# Altium schematic symbol library SCH - ARM CORTEX - NXP LPC802 HVQFN33.SchLib: 1 symbol
Pins are listed as number, name and electrical type; pins without a type are passive.

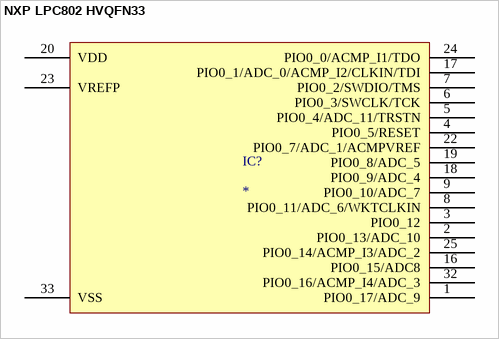
[diagram p0: symbol NXP LPC802 HVQFN33]

## NXP LPC802 HVQFN33
designator IC?
pins: 1 PIO0_17/ADC_9, 2 PIO0_13/ADC_10, 3 PIO0_12, 4 PIO0_5/RESET, 5 PIO0_4/ADC_11/TRSTN, 6 PIO0_3/SWCLK/TCK, 7 PIO0_2/SWDIO/TMS, 8 PIO0_11/ADC_6/WKTCLKIN, 9 PIO0_10/ADC_7, 16 PIO0_15/ADC8, 17 PIO0_1/ADC_0/ACMP_I2/CLKIN/TDI, 18 PIO0_9/ADC_4, 19 PIO0_8/ADC_5, 20 VDD, 22 PIO0_7/ADC_1/ACMPVREF, 23 VREFP, 24 PIO0_0/ACMP_I1/TDO, 25 PIO0_14/ACMP_I3/ADC_2, 32 PIO0_16/ACMP_I4/ADC_3, 33 VSS